# EAGLE library part MAX232D (library MAX232D)
DUAL EIA-232 DRIVERS/RECEIVERS
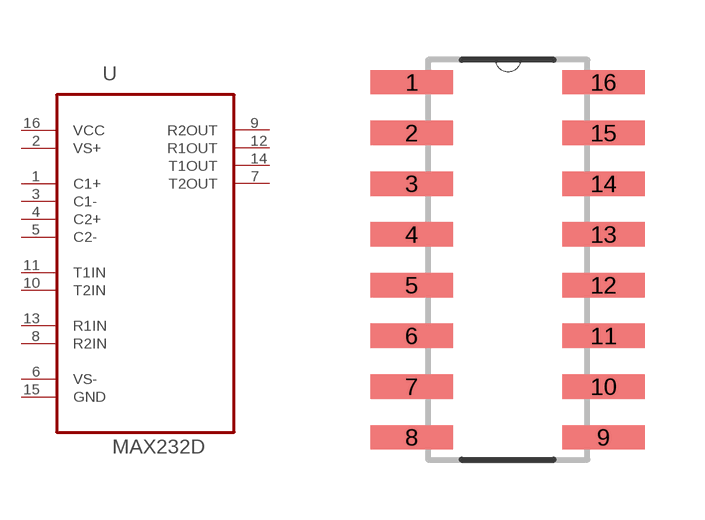
[diagram p0: symbol with the pads of SOIC127P600X175-16N; footprint SOIC127P600X175-16N]

Designator prefix U

## MAX232D (Availability: Unavailable; Description: 2/2 Transceiver Full RS232 16-SOIC; MF: Texas Instruments; MP: MAX232D; Package: SOIC-16 Texas Instruments; Price: None)  [SOIC127P600X175-16N]
1  C1+  in
2  VS+  pwr
3  C1-  in
4  C2+  in
5  C2-  in
6  VS-  pwr
7  T2OUT  out
8  R2IN  in
9  R2OUT  out
10  T2IN  in
11  T1IN  in
12  R1OUT  out
13  R1IN  in
14  T1OUT  out
15  GND  pas
16  VCC  pwr

## Footprint SOIC127P600X175-16N (pad centres in mm)
smd 2.057 x 0.61: 1 -4.801,8.89; 2 -4.801,7.62; 3 -4.801,6.35; 4 -4.801,5.08; 5 -4.801,3.81; 6 -4.801,2.54; 7 -4.801,1.27; 8 -4.801,0; 9 0,0; 10 0,1.27; 11 0,2.54; 12 0,3.81; 13 0,5.08; 14 0,6.35; 15 0,7.62; 16 0,8.89